# Altium footprint library PCB - Leaded - SOD-123FL.PcbLib: 2 footprints
Each footprint in its own frame and in the unit in brackets; x right, y up, seen from the top. Pads: shape width x height; smd on the part's side, far side on the other; paste and mask are expansions set on the pad; w line width, h text height; cw(c..) or ccw(c..) is an arc to the next point about the centre after c.
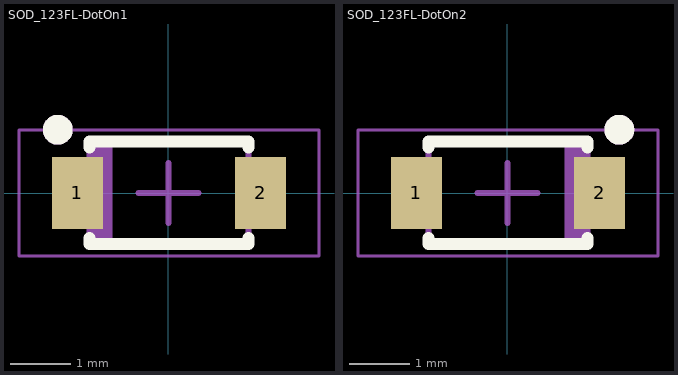
[diagram p0: the footprints below, top view; thin cyan lines are the x and y axes]

## SOD_123FL-DotOn1 [mm]
pads (2):
  rect 0.85x1.2 smd: 1(-1.515,0.008) 2(1.535,0.008)
Top Overlay:
  circle w0.25: c-1.844,1.058 r0.125
  lines w0.2: -1.315,-0.742 -1.315,-0.842 1.335,-0.842 1.335,-0.742 ; -1.315,0.758 -1.315,0.858 1.335,0.858 1.335,0.758
Top Assembly:
  circle w0.25: c-1.844,1.058 r0.125
  region: -0.931,0.858 -1.315,0.858 -1.315,-0.842 -0.931,-0.842
  lines w0.1: -1.315,-0.842 1.335,-0.842 1.335,0.858 -1.315,0.858 -1.315,-0.842
Top Courtyard:
  lines w0.05: -2.49,-1.042 -2.49,1.058 2.51,1.058 2.51,-1.042 -2.49,-1.042
Top Designator:
  text ".Designator" at -2.475,1.475 h0.5
Top Component Center:
  lines w0.1: -0.5,0 0.5,0 ; 0,-0.5 0,0.5
3D body "SOD-123_J.stp": height 1.22, standoff -0.04, extent -1.844,-0.767 1.864,0.783

## SOD_123FL-DotOn2 [mm]
pads (2):
  rect 0.85x1.2 smd: 1(-1.515,0.008) 2(1.535,0.008)
Top Overlay:
  circle w0.25: c1.864,1.058 r0.125
  lines w0.2: -1.315,-0.742 -1.315,-0.842 1.335,-0.842 1.335,-0.742 ; -1.315,0.758 -1.315,0.858 1.335,0.858 1.335,0.758
Top Assembly:
  circle w0.25: c1.864,1.058 r0.125
  rectangle: 0.951,-0.842 1.335,0.858
  lines w0.1: -1.315,-0.842 1.335,-0.842 1.335,0.858 -1.315,0.858 -1.315,-0.842
Top Courtyard:
  lines w0.05: -2.49,-1.042 2.51,-1.042 2.51,1.058 -2.49,1.058 -2.49,-1.042
Top Designator:
  text ".Designator" at -2.49,1.4 h0.5
Top Component Center:
  lines w0.1: -0.5,0 0.5,0 ; 0,-0.5 0,0.5
3D body "SOD-123_J.stp": height 1.22, standoff -0.04, extent -1.844,-0.767 1.864,0.783